# Altium footprint library 1206p.PcbLib: 1 footprints
Each footprint in its own frame and in the unit in brackets; x right, y up, seen from the top. Pads: shape width x height; smd on the part's side, far side on the other; paste and mask are expansions set on the pad; w line width, h text height; cw(c..) or ccw(c..) is an arc to the next point about the centre after c.
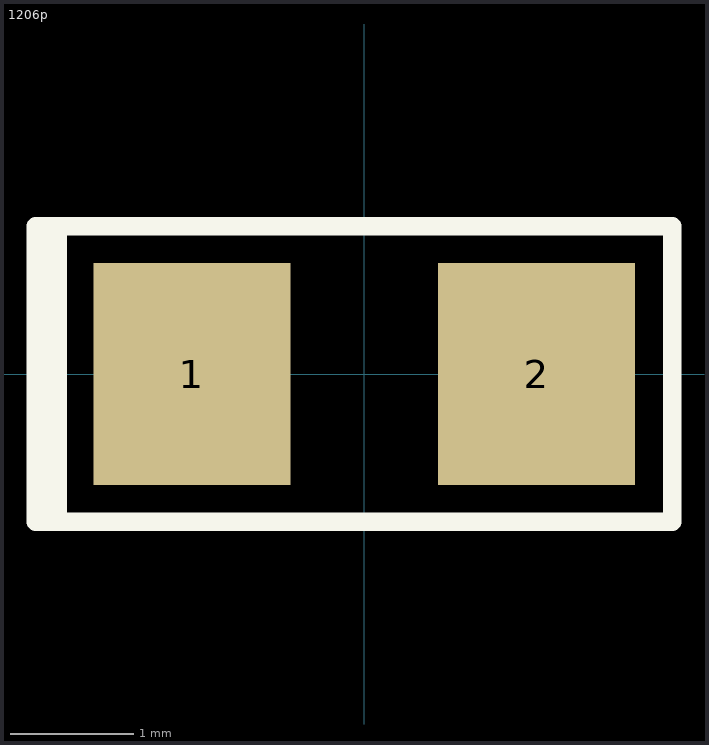
[diagram p0: the footprint, top view; thin cyan lines are the x and y axes]

## 1206p [mm] "Chip Capacitor; Body 3.2 x 1.6 mm (LxW typ) polarized"
height 1.5
pads (2):
  rect 1.6x1.8 smd: 1(-1.4,0) 2(1.4,0)
Top Overlay:
  rectangle: -2.667,-1.2 -2.413,1.2
  lines w0.152: -2.667,-1.2 -2.667,1.2 2.5,1.2 2.5,-1.2 -2.667,-1.2
3D body "CAPACITOR 1206.step": height 1, standoff 0, extent -1.6,-0.8 1.6,0.8